# EAGLE library part TPS252927 (library DubSat1 Components)
http://www.ti.com/product/tps25927/datasheet
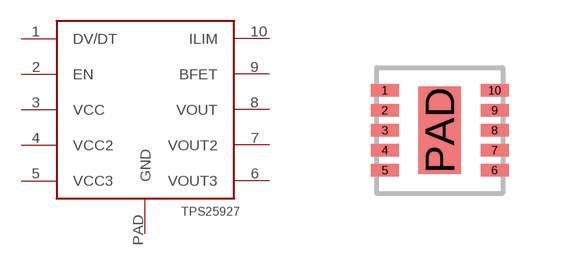
[diagram p31: symbol with the pads of PARTS-FOR-POWER-TEAM1_VSON10; footprint PARTS-FOR-POWER-TEAM1_VSON10]

Designator prefix -

## TPS252927  [PARTS-FOR-POWER-TEAM1_VSON10]
1  DV/DT
2  EN
3  VCC
4  VCC2
5  VCC3
6  VOUT3
7  VOUT2
8  VOUT
9  BFET
10  ILIM
PAD  GND

## Footprint PARTS-FOR-POWER-TEAM1_VSON10 (pad centres in mm)
smd 0.7 x 0.305: 1 0.2,2.575; 2 0.2,2.075; 3 0.2,1.575; 4 0.2,1.075; 5 0.2,0.575; 6 2.95,0.575; 7 2.95,1.075; 8 2.95,1.575; 9 2.95,2.075; 10 2.95,2.575
smd 1.067 x 2.184: PAD 1.575,1.575